# Altium integrated library 757.IntLib: 1 symbol
Pins are listed as number, name and electrical type; pins without a type are passive.

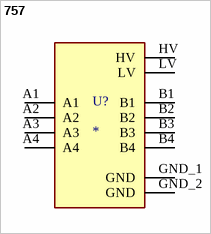
[diagram p0: symbol 757]

## 757
designator U?
BSS138 Logic-Level Translator Interface Evaluation Board; MF: Adafruit; MP: 757; Value: *; SnapEDA_Link: https://www.snapeda.com/parts/757/Adafruit+Industries/view-part/?ref=snap; Purchase-URL: https://pricing.snapeda.com/search/part/757/?ref=eda; Availability: In Stock; Price: None; Package: None; Check_prices: https://www.snapeda.com/parts/757/Adafruit+Industries/view-part/?ref=eda
footprint MODULE_757
pins: A1, A2, A3, A4, B1, B2, B3, B4, GND_1 GND (power), GND_2 GND (power), HV (power), LV (power)